# Altium schematic symbol library Schlib1_rev2.SchLib: 4 symbols
Pins are listed as number, name and electrical type; pins without a type are passive.

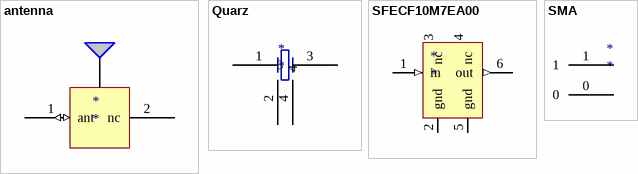
[diagram p0: symbols antenna to SMA]

## antenna
designator *
footprint Chip Antenna
pins: 1 ant (io), 2 nc

## Quarz
designator *
footprint Quarz (3.2x2.5x0.8mm)
pins: 1, 2, 3, 4

## SFECF10M7EA00
designator *
footprint SOP6
pins: 1 in (in), 2 gnd (power), 3 nc, 4 nc, 5 gnd, 6 out (out)

## SMA
designator *
footprint SMA
pins: 0, 1